# Altium schematic symbol library zynqEXP_Schlib.SchLib: 2 symbols
Pins are listed as number, name and electrical type; pins without a type are passive.

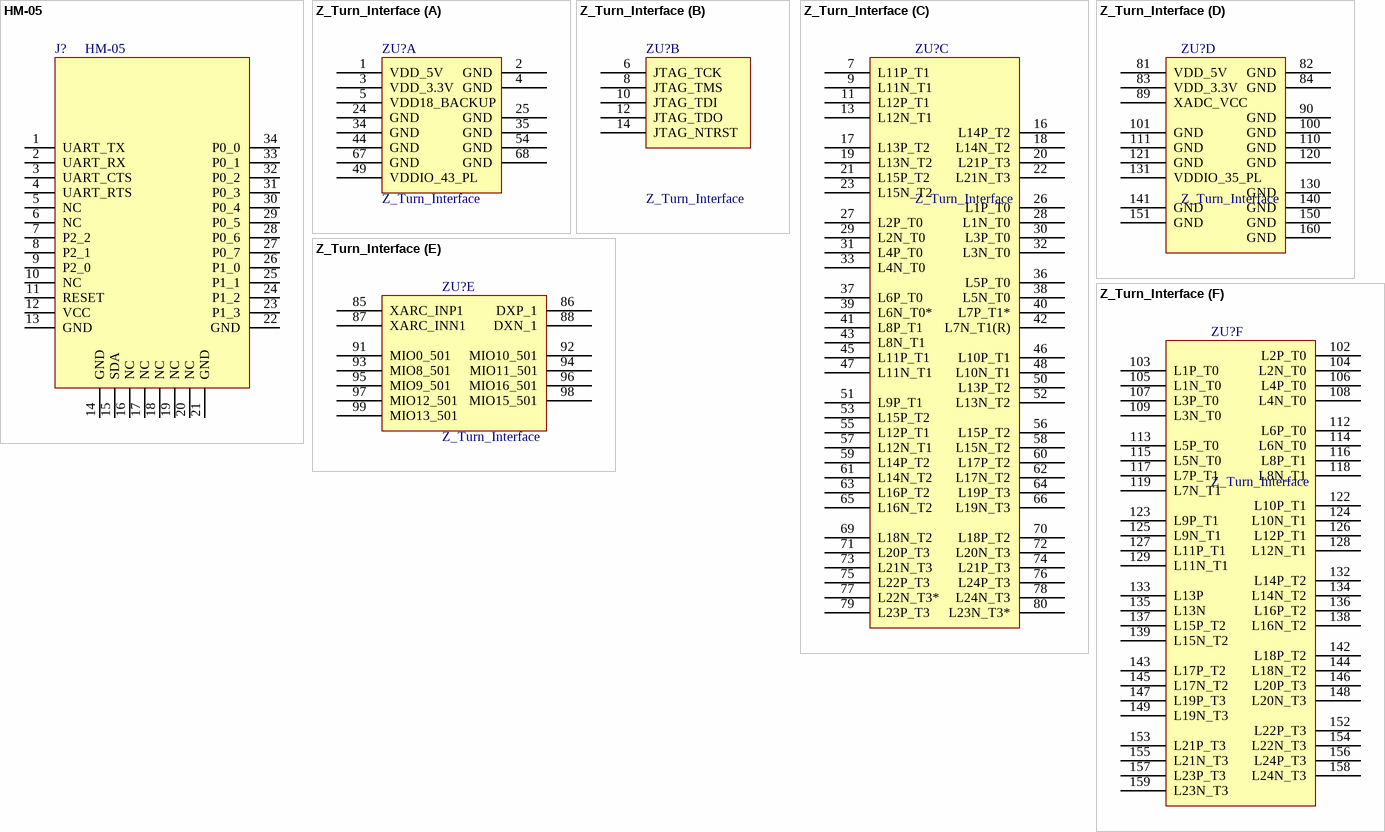
[diagram p0: symbols HM-05 to Z_Turn_Interface]

## HM-05
designator J?
footprint BT05
pins: 1 UART_TX, 2 UART_RX, 3 UART_CTS, 4 UART_RTS, 5 NC, 6 NC, 7 P2_2, 8 P2_1, 9 P2_0, 10 NC, 11 RESET, 12 VCC, 13 GND, 14 GND, 15 SDA, 16 NC, 17 NC, 18 NC, 19 NC, 20 NC, 21 GND, 22 GND, 23 P1_3, 24 P1_2, 25 P1_1, 26 P1_0, 27 P0_7, 28 P0_6, 29 P0_5, 30 P0_4, 31 P0_3, 32 P0_2, 33 P0_1, 34 P0_0

## Z_Turn_Interface
designator ZU?
footprint ZTURN
part A pins: 1 VDD_5V, 2 GND, 3 VDD_3.3V, 4 GND, 5 VDD18_BACKUP, 24 GND, 25 GND, 34 GND, 35 GND, 44 GND, 49 VDDIO_43_PL, 54 GND, 67 GND, 68 GND
part B pins: 6 JTAG_TCK, 8 JTAG_TMS, 10 JTAG_TDI, 12 JTAG_TDO, 14 JTAG_NTRST
part C pins: 7 L11P_T1, 9 L11N_T1, 11 L12P_T1, 13 L12N_T1, 16 L14P_T2, 17 L13P_T2, 18 L14N_T2, 19 L13N_T2, 20 L21P_T3, 21 L15P_T2, 22 L21N_T3, 23 L15N_T2, 26 L1P_T0, 27 L2P_T0, 28 L1N_T0, 29 L2N_T0, 30 L3P_T0, 31 L4P_T0, 32 L3N_T0, 33 L4N_T0, 36 L5P_T0, 37 L6P_T0, 38 L5N_T0, 39 L6N_T0*, 40 L7P_T1*, 41 L8P_T1, 42 L7N_T1(R), 43 L8N_T1, 45 L11P_T1, 46 L10P_T1, 47 L11N_T1, 48 L10N_T1, 50 L13P_T2, 51 L9P_T1, 52 L13N_T2, 53 L15P_T2, 55 L12P_T1, 56 L15P_T2, 57 L12N_T1, 58 L15N_T2, 59 L14P_T2, 60 L17P_T2, 61 L14N_T2, 62 L17N_T2, 63 L16P_T2, 64 L19P_T3, 65 L16N_T2, 66 L19N_T3, 69 L18N_T2, 70 L18P_T2, 71 L20P_T3, 72 L20N_T3, 73 L21N_T3, 74 L21P_T3, 75 L22P_T3, 76 L24P_T3, 77 L22N_T3*, 78 L24N_T3, 79 L23P_T3, 80 L23N_T3*
part D pins: 81 VDD_5V, 82 GND, 83 VDD_3.3V, 84 GND, 89 XADC_VCC, 90 GND, 100 GND, 101 GND, 110 GND, 111 GND, 120 GND, 121 GND, 130 GND, 131 VDDIO_35_PL, 140 GND, 141 GND, 150 GND, 151 GND, 160 GND
part E pins: 85 XARC_INP1, 86 DXP_1, 87 XARC_INN1, 88 DXN_1, 91 MIO0_501, 92 MIO10_501, 93 MIO8_501, 94 MIO11_501, 95 MIO9_501, 96 MIO16_501, 97 MIO12_501, 98 MIO15_501, 99 MIO13_501
part F pins: 102 L2P_T0, 103 L1P_T0, 104 L2N_T0, 105 L1N_T0, 106 L4P_T0, 107 L3P_T0, 108 L4N_T0, 109 L3N_T0, 112 L6P_T0, 113 L5P_T0, 114 L6N_T0, 115 L5N_T0, 116 L8P_T1, 117 L7P_T1, 118 L8N_T1, 119 L7N_T1, 122 L10P_T1, 123 L9P_T1, 124 L10N_T1, 125 L9N_T1, 126 L12P_T1, 127 L11P_T1, 128 L12N_T1, 129 L11N_T1, 132 L14P_T2, 133 L13P, 134 L14N_T2, 135 L13N, 136 L16P_T2, 137 L15P_T2, 138 L16N_T2, 139 L15N_T2, 142 L18P_T2, 143 L17P_T2, 144 L18N_T2, 145 L17N_T2, 146 L20P_T3, 147 L19P_T3, 148 L20N_T3, 149 L19N_T3, 152 L22P_T3, 153 L21P_T3, 154 L22N_T3, 155 L21N_T3, 156 L24P_T3, 157 L23P_T3, 158 L24N_T3, 159 L23N_T3